# EAGLE library part SN74CBTD16211DL (library SE423EagleLibrary)
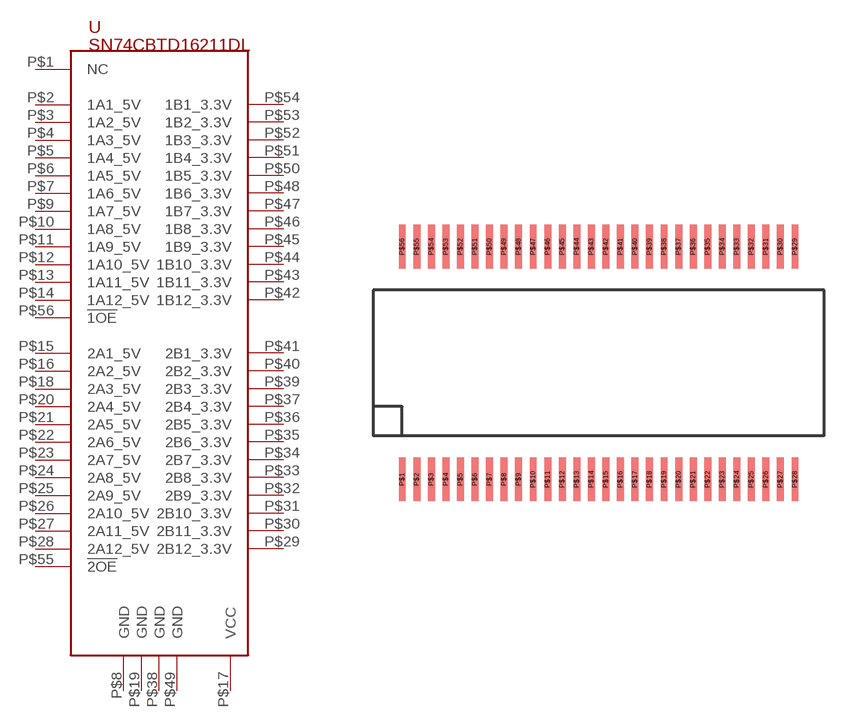
[diagram p7: symbol with the pads of SSOP56; footprint SSOP56]

Designator prefix U

## SN74CBTD16211DL  [SSOP56]
P$1  NC
P$2  1A1_5V
P$3  1A2_5V
P$4  1A3_5V
P$5  1A4_5V
P$6  1A5_5V
P$7  1A6_5V
P$8  GND
P$9  1A7_5V
P$10  1A8_5V
P$11  1A9_5V
P$12  1A10_5V
P$13  1A11_5V
P$14  1A12_5V
P$15  2A1_5V
P$16  2A2_5V
P$17  VCC
P$18  2A3_5V
P$19  GND
P$20  2A4_5V
P$21  2A5_5V
P$22  2A6_5V
P$23  2A7_5V
P$24  2A8_5V
P$25  2A9_5V
P$26  2A10_5V
P$27  2A11_5V
P$28  2A12_5V
P$29  2B12_3.3V
P$30  2B11_3.3V
P$31  2B10_3.3V
P$32  2B9_3.3V
P$33  2B8_3.3V
P$34  2B7_3.3V
P$35  2B6_3.3V
P$36  2B5_3.3V
P$37  2B4_3.3V
P$38  GND
P$39  2B3_3.3V
P$40  2B2_3.3V
P$41  2B1_3.3V
P$42  1B12_3.3V
P$43  1B11_3.3V
P$44  1B10_3.3V
P$45  1B9_3.3V
P$46  1B8_3.3V
P$47  1B7_3.3V
P$48  1B6_3.3V
P$49  GND
P$50  1B5_3.3V
P$51  1B4_3.3V
P$52  1B3_3.3V
P$53  1B2_3.3V
P$54  1B1_3.3V
P$55  !2OE
P$56  !1OE

## Footprint SSOP56 (pad centres in mm)
smd 0.305 x 1.905: P$1 0,-5.08; P$2 0.635,-5.08; P$3 1.27,-5.08; P$4 1.905,-5.08; P$5 2.54,-5.08; P$6 3.175,-5.08; P$7 3.81,-5.08; P$8 4.445,-5.08; P$9 5.08,-5.08; P$10 5.715,-5.08; P$11 6.35,-5.08; P$12 6.985,-5.08; P$13 7.62,-5.08; P$14 8.255,-5.08; P$15 8.89,-5.08; P$16 9.525,-5.08; P$17 10.16,-5.08; P$18 10.795,-5.08; P$19 11.43,-5.08; P$20 12.065,-5.08; P$21 12.7,-5.08; P$22 13.335,-5.08; P$23 13.97,-5.08; P$24 14.605,-5.08; P$25 15.24,-5.08; P$26 15.875,-5.08; P$27 16.51,-5.08; P$28 17.145,-5.08; P$29 17.145,5.08; P$30 16.51,5.08; P$31 15.875,5.08; P$32 15.24,5.08; P$33 14.605,5.08; P$34 13.97,5.08; P$35 13.335,5.08; P$36 12.7,5.08; P$37 12.065,5.08; P$38 11.43,5.08; P$39 10.795,5.08; P$40 10.16,5.08; P$41 9.525,5.08; P$42 8.89,5.08; P$43 8.255,5.08; P$44 7.62,5.08; P$45 6.985,5.08; P$46 6.35,5.08; P$47 5.715,5.08; P$48 5.08,5.08; P$49 4.445,5.08; P$50 3.81,5.08; P$51 3.175,5.08; P$52 2.54,5.08; P$53 1.905,5.08; P$54 1.27,5.08; P$55 0.635,5.08; P$56 0,5.08